# Altium schematic symbol library C0603C394J4RAC7867.SchLib: 1 symbol
Pins are listed as number, name and electrical type; pins without a type are passive.

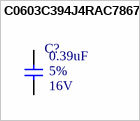
[diagram p0: symbol C0603C394J4RAC7867]

## C0603C394J4RAC7867
designator C?  Rated Voltage: 16V  Tolerance: 5%  Capacitence: 0.39uF  (hidden comment: C0603C394J4RAC7867)
CAP CER 0.39UF 16V X7R 0603; MFR: KEMET; PN: C0603C394J4RAC7867; ComponentLink1Description: Datasheet; ComponentLink1URL: https://content.kemet.com/datasheets/KEM_C1002_X7R_SMD.pdf; Temperature Coefficient: X7R; Package: 0603; Footprint: C0603; Supplier 1: Digi-Key; Supplier Part Number 1: 399-17256-1-ND
footprint C0603 (Generic C0603 Footprint)
pins: 1, 2